# EAGLE library part ACS723LLCTR-40AB-T (library BlueHome)
None
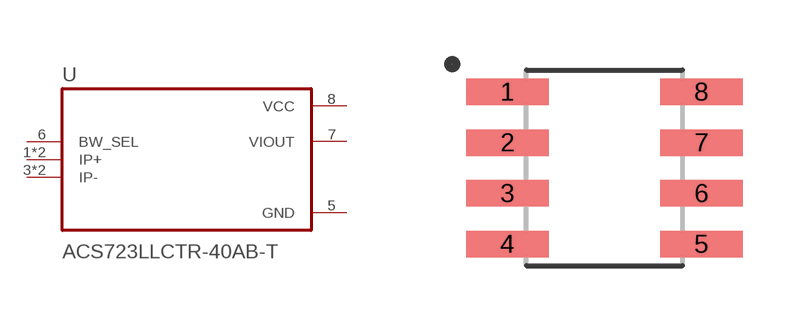
[diagram p0: symbol with the pads of SOIC127P600X175-8N; footprint SOIC127P600X175-8N]

Designator prefix U

## ACS723LLCTR-40AB-T (AVAILABILITY: Unavailable; DESCRIPTION: High Accuracy, Galvanically Isolated Current Sensor IC With Small Footprint SOIC8 Package; MF: Allegro MicroSystems LLC; MP: ACS723LLCTR-40AB-T; PACKAGE: SOIC-8 Allegro MicroSystems LLC; PRICE: None)  [SOIC127P600X175-8N]
1  IP+
2  IP+
3  IP-
4  IP-
5  GND  pwr
6  BW_SEL
7  VIOUT  out
8  VCC  pwr

## Footprint SOIC127P600X175-8N (pad centres in mm)
smd 2.07 x 0.66: 1 -2.425,1.905; 2 -2.425,0.635; 3 -2.425,-0.635; 4 -2.425,-1.905; 5 2.425,-1.905; 6 2.425,-0.635; 7 2.425,0.635; 8 2.425,1.905